# EAGLE library part TB6612FNG (library veter)
TB6612FNG - Breakout from https://www.sparkfun.com/products/9457
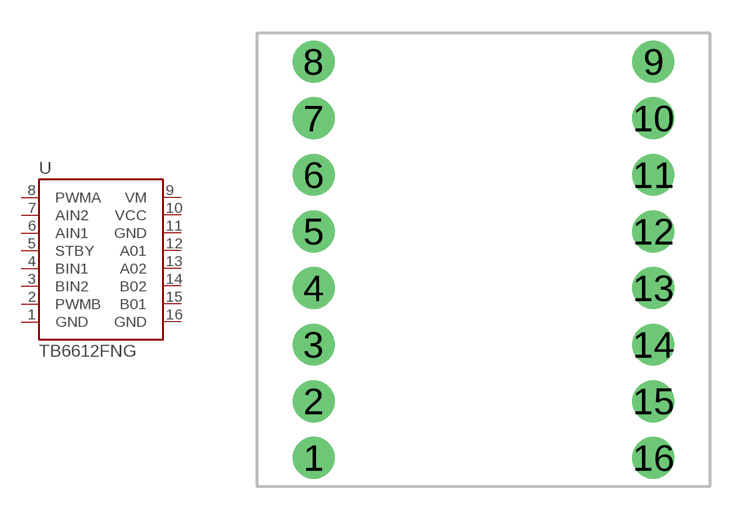
[diagram p1: symbol with the pads of 6612-BREAKOUT; footprint 6612-BREAKOUT]

Designator prefix -

## TB6612FNG  [6612-BREAKOUT]
1  GND  pwr
2  PWMB  in
3  BIN2  in
4  BIN1  in
5  STBY  in
6  AIN1
7  AIN2  in
8  PWMA  in
9  VM  pwr
10  VCC  pwr
11  GND  pwr
12  A01  out
13  A02  out
14  B02  out
15  B01  out
16  GND  pwr

## Footprint 6612-BREAKOUT (pad centres in mm)
TB6612FNG - Breakout from https://www.sparkfun.com/products/9457
drill 1.016 pad 1.88: 1 -7.62,-8.89; 2 -7.62,-6.35; 3 -7.62,-3.81; 4 -7.62,-1.27; 5 -7.62,1.27; 6 -7.62,3.81; 7 -7.62,6.35; 8 -7.62,8.89; 9 7.62,8.89; 10 7.62,6.35; 11 7.62,3.81; 12 7.62,1.27; 13 7.62,-1.27; 14 7.62,-3.81; 15 7.62,-6.35; 16 7.62,-8.89